# Altium footprint library 43650-0200.PcbLib: 1 footprints
Each footprint in its own frame and in the unit in brackets; x right, y up, seen from the top. Pads: shape width x height; smd on the part's side, far side on the other; paste and mask are expansions set on the pad; w line width, h text height; cw(c..) or ccw(c..) is an arc to the next point about the centre after c.
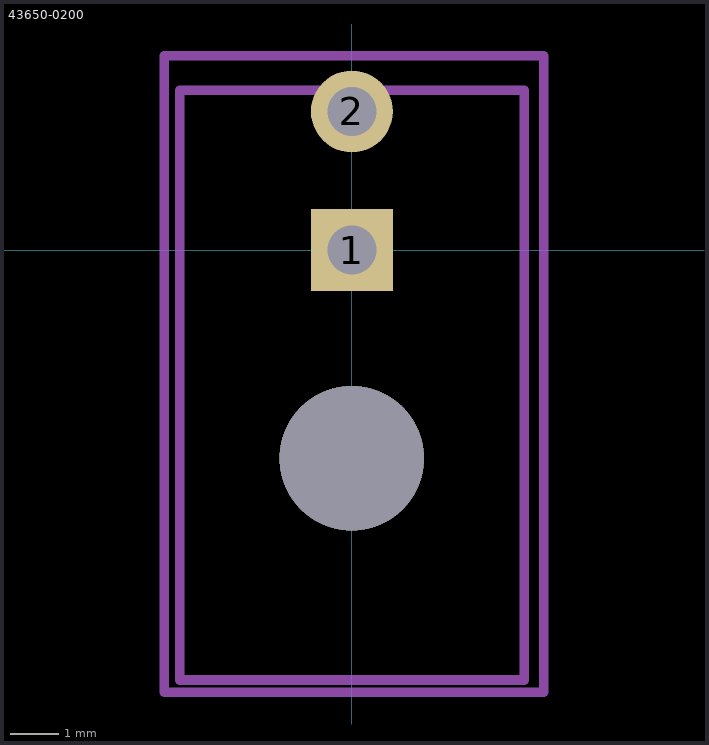
[diagram p0: the footprint, top view; thin cyan lines are the x and y axes]

## 43650-0200 [mm] "Molex Micro-Fit 3.0 1x2"
pads (2):
  rect 1.7x1.7 hole 1.02: 1(0,0)
  round 1.7 hole 1.02: 2(0,2.88)
via 0,-4.32 diameter 3 hole 3
Top Assembly:
  lines w0.2: -3.575,-8.92 3.575,-8.92 3.575,3.32 -3.575,3.32 -3.575,-8.92
Top Courtyard:
  lines w0.2: -3.892,-9.174 3.982,-9.174 3.982,4.034 -3.892,4.034 -3.892,-9.174
3D body "430450200.stp": height 8.83, standoff -3.12, extent -3.575,-8.92 3.575,3.32